# EAGLE library part AT45* (library at45dataflash)
ATMEL AT45DB041 AT45DB081 Dataflash 1 / 2 / 4 / 8 MBit SO8
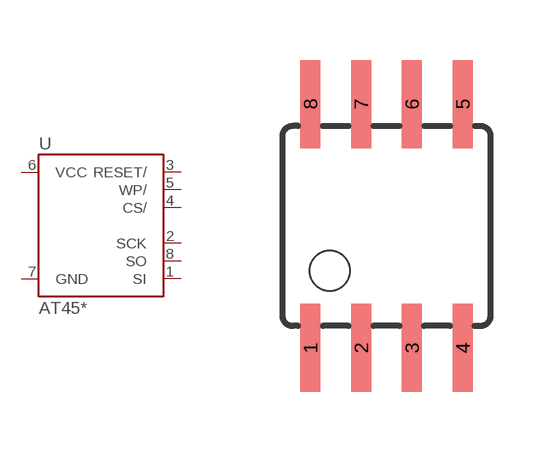
[diagram p0: symbol with the pads of SOIC8; footprint SOIC8]

Designator prefix -

## AT45SO  [SOIC8]
1  SI  in
2  SCK  in
3  RESET/  in
4  CS/  in
5  WP/  in
6  VCC  pwr
7  GND  pwr
8  SO  oc

## Footprint SOIC8 (pad centres in mm)
Wide Plastic Gull Wing Small Outline Package
smd 0.5 x 2.2: 1 -1.905,-3.048; 2 -0.635,-3.048; 3 0.635,-3.048; 4 1.905,-3.048; 5 1.905,3.048; 6 0.635,3.048; 7 -0.635,3.048; 8 -1.905,3.048